# Altium schematic symbol library SnapEDAsch.SchLib: 1 symbol
Pins are listed as number, name and electrical type; pins without a type are passive.

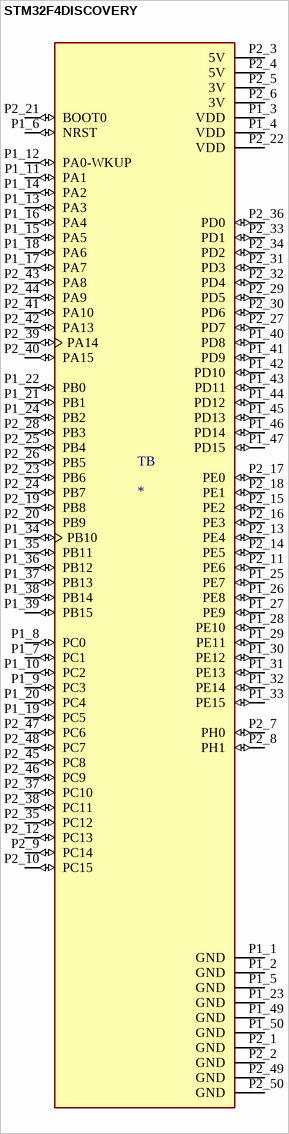
[diagram p0: symbol STM32F4DISCOVERY]

## STM32F4DISCOVERY
designator TB
STM32F407VGT6 Discovery STM32F4 ARMÂ® CortexÂ®-M4 MCU 32-Bit Embedded Evaluation Board; MP: STM32F4DISCOVERY; MF: STMicroelectronics; Package: None; Price: None; Availability: Unavailable; Value: *; SnapEDA_Link: https://www.snapeda.com/parts/STM32F4DISCOVERY/STMicroelectronics/view-part/46335/?ref=snap
footprint MODULE_STM32F4DISCOVERY
pins: P1_1 GND (power), P1_2 GND (power), P1_3 VDD (power), P1_4 VDD (power), P1_5 GND (power), P1_6 NRST (io), P1_7 PC1 (io), P1_8 PC0 (io), P1_9 PC3 (io), P1_10 PC2 (io), P1_11 PA1 (io), P1_12 PA0-WKUP (io), P1_13 PA3 (io), P1_14 PA2 (io), P1_15 PA5 (io), P1_16 PA4 (io), P1_17 PA7 (io), P1_18 PA6 (io), P1_19 PC5 (io), P1_20 PC4 (io), P1_21 PB1 (io), P1_22 PB0 (io), P1_23 GND (power), P1_24 PB2 (io), P1_25 PE7 (io), P1_26 PE8 (io), P1_27 PE9 (io), P1_28 PE10 (io), P1_29 PE11 (io), P1_30 PE12 (io), P1_31 PE13 (io), P1_32 PE14 (io), P1_33 PE15 (io), P1_34 PB10 (io), P1_35 PB11 (io), P1_36 PB12 (io), P1_37 PB13 (io), P1_38 PB14 (io), P1_39 PB15 (io), P1_40 PD8 (io), P1_41 PD9 (io), P1_42 PD10 (io), P1_43 PD11 (io), P1_44 PD12 (io), P1_45 PD13 (io), P1_46 PD14 (io), P1_47 PD15 (io), P1_49 GND (power), P1_50 GND (power), P2_1 GND (power), P2_2 GND (power), P2_3 5V (power), P2_4 5V (power), P2_5 3V (power), P2_6 3V (power), P2_7 PH0 (io), P2_8 PH1 (io), P2_9 PC14 (io), P2_10 PC15 (io), P2_11 PE6 (io), P2_12 PC13 (io), P2_13 PE4 (io), P2_14 PE5 (io), P2_15 PE2 (io), P2_16 PE3 (io), P2_17 PE0 (io), P2_18 PE1 (io), P2_19 PB8 (io), P2_20 PB9 (io), P2_21 BOOT0 (io), P2_22 VDD (power), P2_23 PB6 (io), P2_24 PB7 (io), P2_25 PB4 (io), P2_26 PB5 (io), P2_27 PD7 (io), P2_28 PB3 (io), P2_29 PD5 (io), P2_30 PD6 (io), P2_31 PD3 (io), P2_32 PD4 (io), P2_33 PD1 (io), P2_34 PD2 (io), P2_35 PC12 (io), P2_36 PD0 (io), P2_37 PC10 (io), P2_38 PC11 (io), P2_39 PA14 (io), P2_40 PA15 (io), P2_41 PA10 (io), P2_42 PA13 (io), P2_43 PA8 (io), P2_44 PA9 (io), P2_45 PC8 (io), P2_46 PC9 (io), P2_47 PC6 (io), P2_48 PC7 (io), P2_49 GND (power), P2_50 GND (power)